# Altium footprint library PcbLib1.PcbLib: 9 footprints
Each footprint in its own frame and in the unit in brackets; x right, y up, seen from the top. Pads: shape width x height; smd on the part's side, far side on the other; paste and mask are expansions set on the pad; w line width, h text height; cw(c..) or ccw(c..) is an arc to the next point about the centre after c.
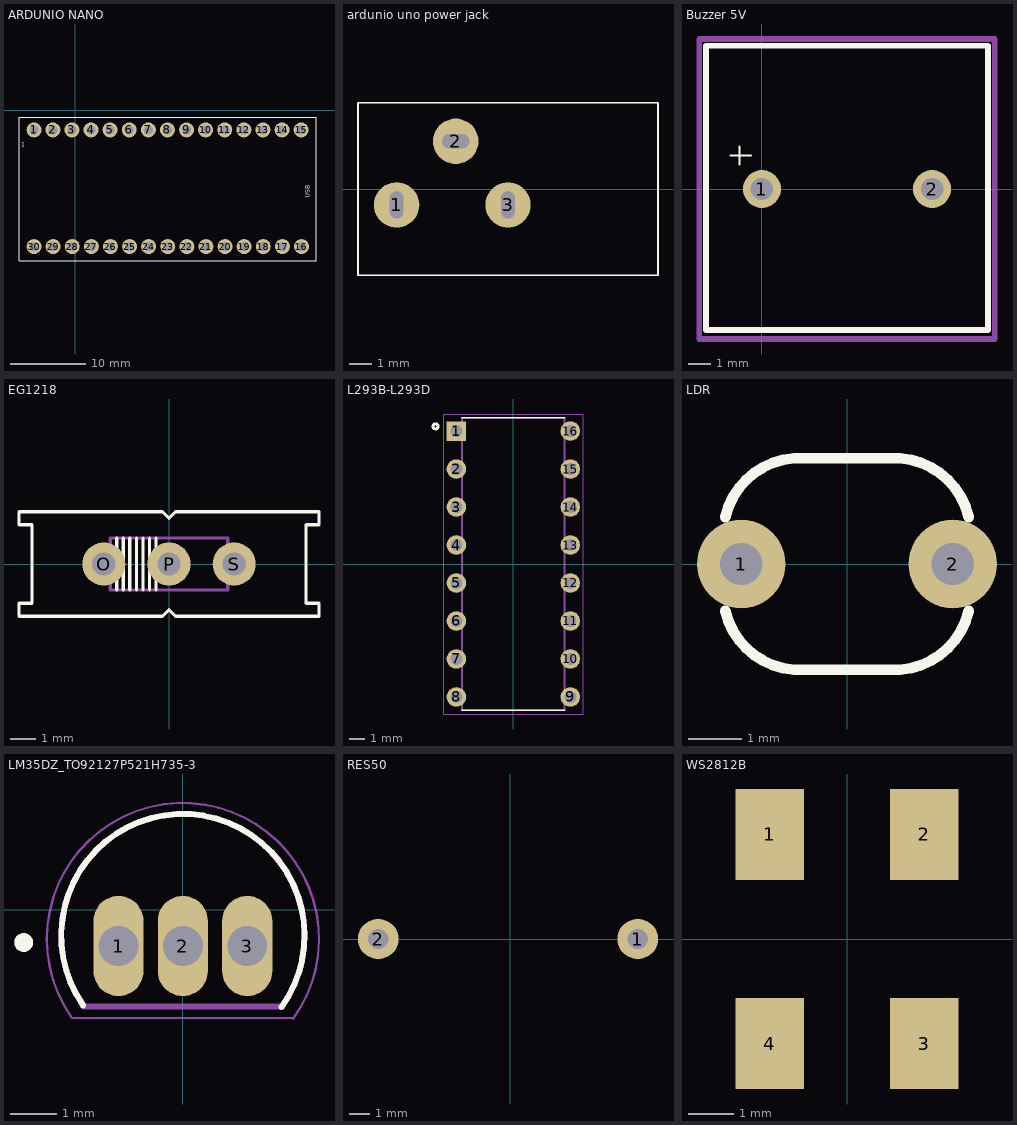
[diagram p0: the footprints below, top view; thin cyan lines are the x and y axes]

## ARDUNIO NANO [mm]
pads (30):
  round 2 hole 1.2: 1(-5.5,-2.6) 2(-3.004,-2.586) 3(-0.464,-2.586) 4(2.076,-2.586) 5(4.616,-2.586) 6(7.156,-2.586) 7(9.696,-2.586) 8(12.236,-2.586) 9(14.776,-2.586) 10(17.316,-2.586) 11(19.856,-2.586) 12(22.396,-2.586) 13(24.936,-2.586) 14(27.476,-2.586) 15(30.016,-2.586) 16(30.06,-18.1) 17(27.52,-18.1) 18(24.98,-18.1) 19(22.44,-18.1) 20(19.9,-18.1) 21(17.36,-18.1) 22(14.82,-18.1) 23(12.28,-18.1) 24(9.74,-18.1) 25(7.2,-18.1) 26(4.66,-18.1) 27(2.12,-18.1) 28(-0.42,-18.1) 29(-2.96,-18.1) 30(-5.5,-18.1)
Top Overlay:
  lines w0.076: -7.5,-20 32,-20 32,-0.9 -7.5,-0.9 -7.5,-20
  text "1" at -7.2,-5 h1
  text "USB" at 31.389,-11.6 h1
3D body "15-Pin Header - Female - 2.54mm.step": height 5.5, standoff -2.5, extent -7.02,-3.85 31.58,-1.35
3D body "15-Pin Header - Female - 2.54mm.step": height 5.5, standoff -2.5, extent -7.02,-19.35 31.58,-16.85

## ardunio uno power jack [mm]
pads (3):
  round 2 hole 0.6 slot 1.2 at 90 deg: 1(7.2,-0.7) 3(12.1,-0.7)
  round 2 hole 0.6 slot 1.2 at 0 deg: 2(9.8,2.1)
Top Overlay:
  lines w0.076: 5.5,-3.8 18.7,-3.8 18.7,3.8 5.5,3.8 5.5,-3.8
3D body "ardunio uno power jack.step": height 7.58, standoff -2.62, extent 7.05,-3.2 18.15,2.25

## Buzzer 5V [mm]
pads (2):
  round 1.7 hole 1 mask+0.05: 1(0,0) 2(7.6,0)
Top Overlay:
  lines w0.1: -1.4,1.5 -0.5,1.5 ; -1,1.1 -1,1.9
  lines w0.254: -2.5,-6.3 10.1,-6.3 10.1,6.4 -2.5,6.4 -2.5,-6.3
Mechanical 3:
  lines w0.254: -2.8,-6.7 10.4,-6.7 10.4,6.7 -2.8,6.7 -2.8,-6.7
3D body "User Library-Kobitone_Buzzer.step": height 8.48, standoff -4.6, extent -2.118,-5.912 9.718,5.912

## EG1218 [mil]
pads (3):
  round 66 hole 35.43: O(-100,0) P(0,0) S(100,0)
Top Overlay:
  lines w5: -80,-40 -80,40 ; -70,-40 -70,40 ; -60,-40 -60,40 ; -50,-40 -50,40 ; -40,-40 -40,40 ; -30,-40 -30,40 ; -20,-40 -20,40 ; -230,-80 -10,-80 0,-70 10,-80 230,-80 230,-60 210,-60 210,60 230,60 230,80 10,80 0,70 -10,80 -230,80 -230,60 -210,60 -210,-60 -230,-60 -230,-80
Mechanical 13:
  lines w5: -90,-40 90,-40 90,40 -90,40 -90,-40
3D body "EG1218--3DModel-STEP-520916.STEP": height 393.7, standoff -82.68, extent -228.35,-78.74 228.35,78.74

## L293B-L293D [mm]
pads (16):
  rect 1.308x1.308 hole 0.8: 1(-3.81,8.89)
  round 1.308 hole 0.8: 2(-3.81,6.35) 3(-3.81,3.81) 4(-3.81,1.27) 5(-3.81,-1.27) 6(-3.81,-3.81) 7(-3.81,-6.35) 8(-3.81,-8.89) 9(3.81,-8.89) 10(3.81,-6.35) 11(3.81,-3.81) 12(3.81,-1.27) 13(3.81,1.27) 14(3.81,3.81) 15(3.81,6.35) 16(3.81,8.89)
Top Overlay:
  circle w0.2: c-5.2,9.2 r0.17
  lines w0.127: -3.43,-9.78 3.43,-9.78 ; -3.43,9.78 3.43,9.78
Mechanical 13:
  lines w0.127: -3.43,-9.78 -3.43,9.78 3.43,9.78 3.43,-9.78 -3.43,-9.78
Mechanical 15:
  lines w0.05: -4.66,-10.03 -4.66,10.03 4.66,10.03 4.66,-10.03 -4.66,-10.03
3D body "L293B.STEP": height 5.71, standoff -3.43, extent -5.481,-9.6 5.681,9.58

## LDR [mm]
pads (2):
  round 1.676 hole 0.8: 1(-2,0) 2(2,0)
Top Overlay:
  lines w0.203: -2.303,-0.889 ccw(c-0.901,-0.565) -1.002,-2 ; -2.303,0.889 cw(c-0.901,0.565) -1.001,2 ; -1,-2 1,-2 ; -1,2 1,2 ; 1.001,-2 ccw(c0.901,-0.565) 2.303,-0.889 ; 1.002,2 cw(c0.901,0.565) 2.303,0.889
3D body "LDR Photoresistor photocell (D=4.1mm, dpins = 3mm).step": height 5.1, standoff -7.1, extent -2.5,-2.1 2.6,2.2

## LM35DZ_TO92127P521H735-3 [mm]
pads (3):
  oval 1.07x2.14 hole 0.85 mask+0.08: 1(-1.375,-0.775) 2(0,-0.775) 3(1.375,-0.775)
Top Overlay:
  circle w0.2: c-3.4,-0.7 r0.1
  lines w0.127: -2.129,-2.044 cw(c0,-0.554) 2.103,-2.081
Mechanical 13:
  circle w0.2: c-3.4,-0.7 r0.1
  lines w0.127: -2.129,-2.044 cw(c0,-0.554) 2.103,-2.081 ; -2.116,-2.063 2.116,-2.063
Mechanical 15:
  lines w0.05: -2.381,-2.292 cw(c0,-0.625) 2.351,-2.334 ; -2.366,-2.313 2.366,-2.313

## RES50 [mm]
pads (2):
  round 2 hole 1: 1(6.3,0) 2(-6.5,0)
3D body "Resistor 330ohm,RES50.step": height 7.37, standoff -2, extent -6.75,-1.9 6.7,1.85

## WS2812B [mm]
pads (4):
  rect 1.5x2 smd: 1(-1.7,2.3) 2(1.7,2.3) 3(1.7,-2.3) 4(-1.7,-2.3)
3D body "WS2812B-1.step": height 2.3, standoff 0.73, extent -2.5,-2.7 2.5,2.7